# Altium footprint library UART.PcbLib: 1 footprints
Each footprint in its own frame and in the unit in brackets; x right, y up, seen from the top. Pads: shape width x height; smd on the part's side, far side on the other; paste and mask are expansions set on the pad; w line width, h text height; cw(c..) or ccw(c..) is an arc to the next point about the centre after c.
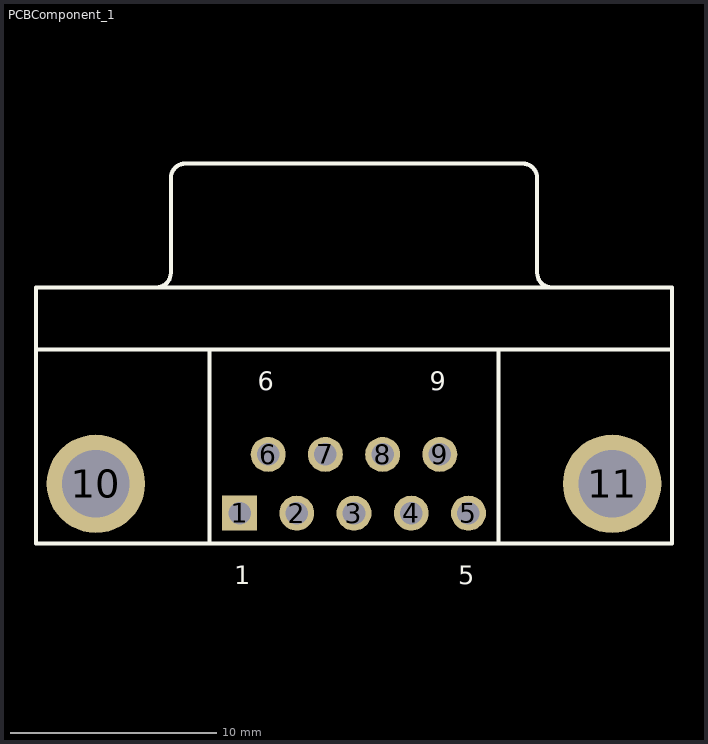
[diagram p0: the footprint, top view; thin cyan lines are the x and y axes]

## PCBComponent_1 [mm]
pads (11):
  rect 1.69x1.69 hole 1.09: 1(-778.065,-893.871)
  round 1.69 hole 1.09: 2(-775.295,-893.871) 3(-772.525,-893.871) 4(-769.755,-893.871) 5(-766.985,-893.871) 6(-776.68,-891.031) 7(-773.91,-891.031) 8(-771.14,-891.031) 9(-768.37,-891.031)
  round 4.76 hole 3.26: 10(-785.02,-892.451) 11(-760.03,-892.451)
Top Overlay:
  lines w0.2: -787.925,-885.951 -757.125,-885.951 ; -782.085,-882.946 ccw(c-782.085,-882.251) -781.39,-882.251 -781.39,-877.651 ; -781.385,-877.646 cw(c-780.69,-877.646) -780.69,-876.951 -764.36,-876.951 cw(c-764.36,-877.646) -763.665,-877.646 ; -779.525,-895.351 -779.525,-885.951 ; -765.525,-895.351 -765.525,-885.951 ; -763.66,-877.651 -763.66,-882.251 ccw(c-762.965,-882.251) -762.965,-882.946 ; -787.925,-895.351 -787.925,-882.951 -757.125,-882.951 -757.125,-895.351 -787.925,-895.351
  text "1" at -778.315,-897.326 h0.9
  text "5" at -767.485,-897.326 h0.9
  text "9" at -768.87,-887.926 h0.9
  text "6" at -777.18,-887.926 h0.9